# EAGLE library part SN74HC165 (library PP_DigitalIC)
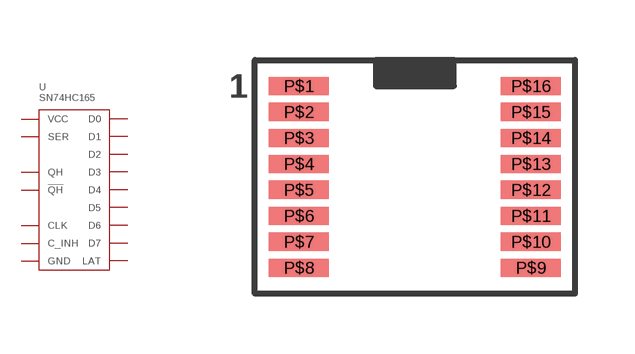
[diagram p40: symbol with the pads of SN74HC165_TSSOP-16; footprint SN74HC165_TSSOP-16]

Designator prefix U

## SN74HC165PWR  [SN74HC165_TSSOP-16]
P$1  LAT
P$2  CLK
P$3  D4
P$4  D5
P$5  D6
P$6  D7
P$7  QH'
P$8  GND
P$9  QH
P$10  SER
P$11  D0
P$12  D1
P$13  D2
P$14  D3
P$15  C_INH
P$16  VCC

## Footprint SN74HC165_TSSOP-16 (pad centres in mm)
smd 1.5 x 0.45: P$1 -2.9,2.275; P$2 -2.9,1.625; P$3 -2.9,0.975; P$4 -2.9,0.325; P$5 -2.9,-0.325; P$6 -2.9,-0.975; P$7 -2.9,-1.625; P$8 -2.9,-2.275; P$9 2.9,-2.275; P$10 2.9,-1.625; P$11 2.9,-0.975; P$12 2.9,-0.325; P$13 2.9,0.325; P$14 2.9,0.975; P$15 2.9,1.625; P$16 2.9,2.275